# Altium schematic symbol library kmilo17pet-NSC_Amplifier.SchLib: 1665 symbols (part 12 of 44)
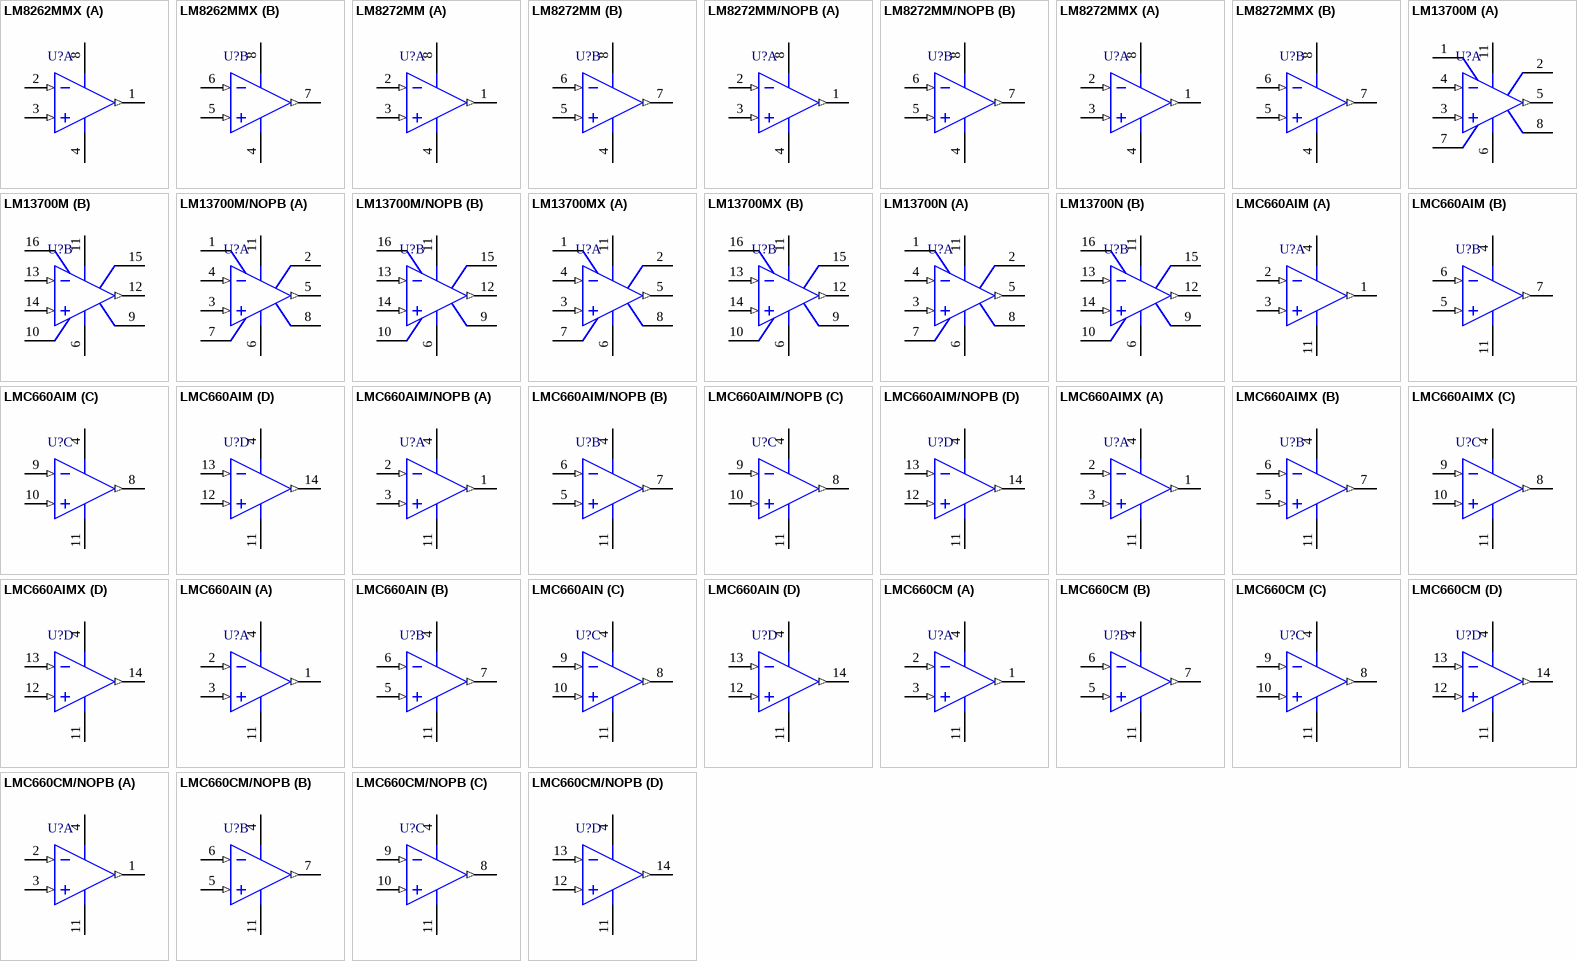
[diagram p95: symbols LM8262MMX to LMC660CM/NOPB]

## LMC660CM/NOPB
designator U?
CMOS Quad Operational Amplifier, 14-pin Narrow SOIC, Pb-Free; PartNumber: LMC660CM/NOPB; Manufacturer: National Semiconductor; PackageTopMarking: NSUZXYTTE#*LMC660CM; PowerWise: N; CompType: Amplifiers; High-Reliability: Y; DatasheetVersion: Jun-2006; PackageVersion: revJ, Jan-1996; PackageReference: M14A; PackageDescription: Molded Package S.O., .150in Wide, 14 Lead; RoHS: Y; PinCount: 14; Code_JEDEC: MS-012AB; Code_IPC: SOIC127P600-14; ComponentLink1Description: Manufacturer URL; ComponentLink1URL: http://www.national.com/; ComponentLink2Description: LMC660 Datasheet; ComponentLink2URL: http://www.national.com/ds/LM/LMC660.pdf; ComponentLink3Description: LMC660 Web Page; ComponentLink3URL: http://www.national.com/pf/LM/LMC660.html; ComponentLink4Description: M14A Package Page; ComponentLink4URL: http://www.national.com/packaging/folders/m14a.html
footprint M14A_N (SOIC, 14-Leads, Body 8.6x3.9mm, Pitch 1.27mm, IPC Medium Density)
footprint M14A_L (SOIC, 14-Leads, Body 8.6x3.9mm, Pitch 1.27mm, IPC High Density)
footprint M14A_M (SOIC, 14-Leads, Body 8.6x3.9mm, Pitch 1.27mm, IPC Low Density)
pins on every part: 4 V+ (power), 11 V- (power)
part A pins: 1 OUT1 (out), 2 IN1- (in), 3 IN1+ (in)
part B pins: 5 IN2+ (in), 6 IN2- (in), 7 OUT2 (out)
part C pins: 8 OUT3 (out), 9 IN3- (in), 10 IN3+ (in)
part D pins: 12 IN4+ (in), 13 IN4- (in), 14 OUT4 (out)

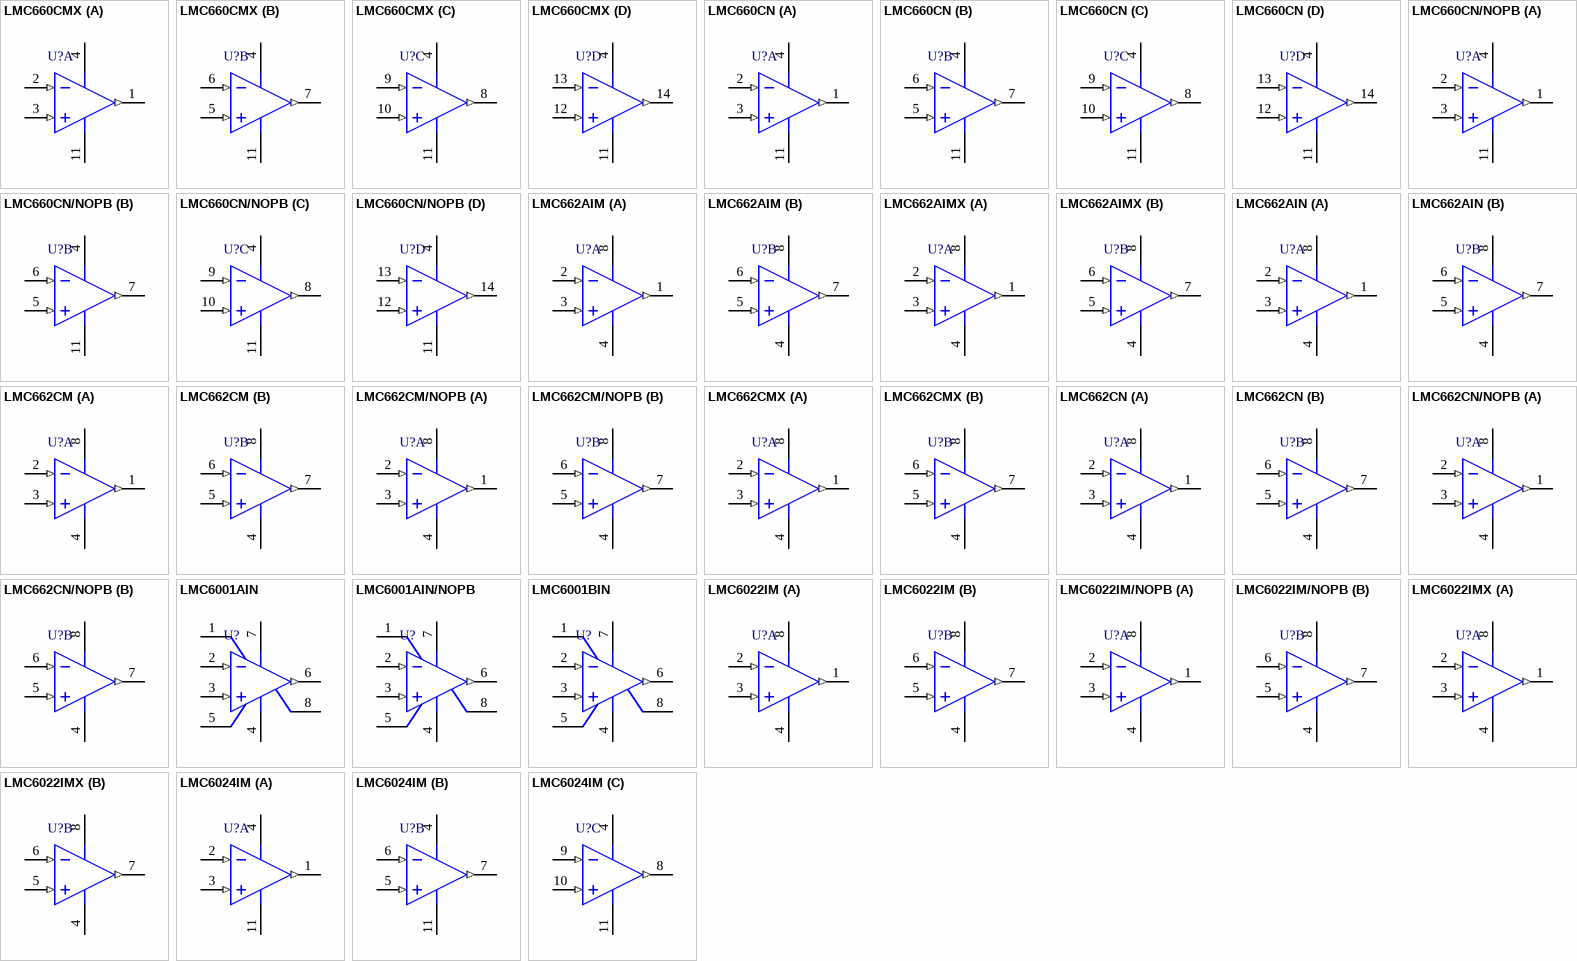
[diagram p26: symbols LMC660CMX to LMC6024IM]

## LMC660CMX
designator U?
CMOS Quad Operational Amplifier, 14-pin Narrow SOIC; PartNumber: LMC660CMX; Manufacturer: National Semiconductor; PackageTopMarking: NSUZXYTTE#*LMC660CM; PowerWise: N; CompType: Amplifiers; High-Reliability: Y; DatasheetVersion: Jun-2006; PackageVersion: revJ, Jan-1996; PackageReference: M14A; PackageDescription: Molded Package S.O., .150in Wide, 14 Lead; RoHS: N; PinCount: 14; Code_JEDEC: MS-012AB; Code_IPC: SOIC127P600-14; ComponentLink1Description: Manufacturer URL; ComponentLink1URL: http://www.national.com/; ComponentLink2Description: LMC660 Datasheet; ComponentLink2URL: http://www.national.com/ds/LM/LMC660.pdf; ComponentLink3Description: LMC660 Web Page; ComponentLink3URL: http://www.national.com/pf/LM/LMC660.html; ComponentLink4Description: M14A Package Page; ComponentLink4URL: http://www.national.com/packaging/folders/m14a.html
footprint M14A_N (SOIC, 14-Leads, Body 8.6x3.9mm, Pitch 1.27mm, IPC Medium Density)
footprint M14A_L (SOIC, 14-Leads, Body 8.6x3.9mm, Pitch 1.27mm, IPC High Density)
footprint M14A_M (SOIC, 14-Leads, Body 8.6x3.9mm, Pitch 1.27mm, IPC Low Density)
pins on every part: 4 V+ (power), 11 V- (power)
part A pins: 1 OUT1 (out), 2 IN1- (in), 3 IN1+ (in)
part B pins: 5 IN2+ (in), 6 IN2- (in), 7 OUT2 (out)
part C pins: 8 OUT3 (out), 9 IN3- (in), 10 IN3+ (in)
part D pins: 12 IN4+ (in), 13 IN4- (in), 14 OUT4 (out)

## LMC660CN
designator U?
CMOS Quad Operational Amplifier, 14-pin MDIP; PartNumber: LMC660CN; Manufacturer: National Semiconductor; PackageTopMarking: NSUZXYYTTE#*LMC660CN; PowerWise: N; CompType: Amplifiers; High-Reliability: Y; DatasheetVersion: Jun-2006; PackageVersion: revG, May-2006; PackageReference: N14A; PackageDescription: MDIP, .750 x .250 x.130in, 14 Lead, .100in Pitch; RoHS: N; PinCount: 14; Code_JEDEC: MS-001-AA; ComponentLink1Description: Manufacturer URL; ComponentLink1URL: http://www.national.com/; ComponentLink2Description: LMC660 Datasheet; ComponentLink2URL: http://www.national.com/ds/LM/LMC660.pdf; ComponentLink3Description: LMC660 Web Page; ComponentLink3URL: http://www.national.com/pf/LM/LMC660.html; ComponentLink4Description: N14A Package Page; ComponentLink4URL: http://www.national.com/packaging/folders/n14a.html
footprint N14A (DIP, 14-Leads, Row Spacing 7.62mm, Pitch 2.54mm, Body 19.56x6.35mm)
pins on every part: 4 V+ (power), 11 V- (power)
part A pins: 1 OUT1 (out), 2 IN1- (in), 3 IN1+ (in)
part B pins: 5 IN2+ (in), 6 IN2- (in), 7 OUT2 (out)
part C pins: 8 OUT3 (out), 9 IN3- (in), 10 IN3+ (in)
part D pins: 12 IN4+ (in), 13 IN4- (in), 14 OUT4 (out)

## LMC660CN/NOPB
designator U?
CMOS Quad Operational Amplifier, 14-pin MDIP, Pb-Free; PartNumber: LMC660CN/NOPB; Manufacturer: National Semiconductor; PackageTopMarking: NSUZXYYTTE#*LMC660CN; PowerWise: N; CompType: Amplifiers; High-Reliability: Y; DatasheetVersion: Jun-2006; PackageVersion: revG, May-2006; PackageReference: N14A; PackageDescription: MDIP, .750 x .250 x.130in, 14 Lead, .100in Pitch; RoHS: Y; PinCount: 14; Code_JEDEC: MS-001-AA; ComponentLink1Description: Manufacturer URL; ComponentLink1URL: http://www.national.com/; ComponentLink2Description: LMC660 Datasheet; ComponentLink2URL: http://www.national.com/ds/LM/LMC660.pdf; ComponentLink3Description: LMC660 Web Page; ComponentLink3URL: http://www.national.com/pf/LM/LMC660.html; ComponentLink4Description: N14A Package Page; ComponentLink4URL: http://www.national.com/packaging/folders/n14a.html
footprint N14A (DIP, 14-Leads, Row Spacing 7.62mm, Pitch 2.54mm, Body 19.56x6.35mm)
pins on every part: 4 V+ (power), 11 V- (power)
part A pins: 1 OUT1 (out), 2 IN1- (in), 3 IN1+ (in)
part B pins: 5 IN2+ (in), 6 IN2- (in), 7 OUT2 (out)
part C pins: 8 OUT3 (out), 9 IN3- (in), 10 IN3+ (in)
part D pins: 12 IN4+ (in), 13 IN4- (in), 14 OUT4 (out)

## LMC662AIM
designator U?
CMOS Dual Operational Amplifier, 8-pin Narrow SOIC; PartNumber: LMC662AIM; Manufacturer: National Semiconductor; PackageTopMarking: NSZXTT*LMC66*2AIM; PowerWise: N; CompType: Amplifiers; High-Reliability: Y; DatasheetVersion: Apr-2003; PackageVersion: revM, May-2009; PackageReference: M08A; PackageDescription: SOIC Narrow, 4.9 x 3.9 x 1.45mm, 8 Lead, 1.27mm Pitch; RoHS: N; PinCount: 8; Code_JEDEC: MS-012-AA; Code_IPC: SOIC127P600-8; ComponentLink1Description: Manufacturer URL; ComponentLink1URL: http://www.national.com/; ComponentLink2Description: LMC662 Datasheet; ComponentLink2URL: http://www.national.com/ds/LM/LMC662.pdf; ComponentLink3Description: LMC662 Web Page; ComponentLink3URL: http://www.national.com/pf/LM/LMC662.html; ComponentLink4Description: M08A Package Page; ComponentLink4URL: http://www.national.com/packaging/folders/m08a.html
footprint M08A_N (SOIC, 8-Leads, Body 4.9x3.9mm, Pitch 1.27mm, IPC Medium Density)
footprint M08A_L (SOIC, 8-Leads, Body 4.9x3.9mm, Pitch 1.27mm, IPC High Density)
footprint M08A_M (SOIC, 8-Leads, Body 4.9x3.9mm, Pitch 1.27mm, IPC Low Density)
pins on every part: 4 V- (power), 8 V+ (power)
part A pins: 1 OUTA (out), 2 INA- (in), 3 INA+ (in)
part B pins: 5 INB+ (in), 6 INB- (in), 7 OUTB (out)

## LMC662AIMX
designator U?
CMOS Dual Operational Amplifier, 8-pin Narrow SOIC; PartNumber: LMC662AIMX; Manufacturer: National Semiconductor; PackageTopMarking: NSZXTT*LMC66*2AIM; PowerWise: N; CompType: Amplifiers; High-Reliability: Y; DatasheetVersion: Apr-2003; PackageVersion: revM, May-2009; PackageReference: M08A; PackageDescription: SOIC Narrow, 4.9 x 3.9 x 1.45mm, 8 Lead, 1.27mm Pitch; RoHS: N; PinCount: 8; Code_JEDEC: MS-012-AA; Code_IPC: SOIC127P600-8; ComponentLink1Description: Manufacturer URL; ComponentLink1URL: http://www.national.com/; ComponentLink2Description: LMC662 Datasheet; ComponentLink2URL: http://www.national.com/ds/LM/LMC662.pdf; ComponentLink3Description: LMC662 Web Page; ComponentLink3URL: http://www.national.com/pf/LM/LMC662.html; ComponentLink4Description: M08A Package Page; ComponentLink4URL: http://www.national.com/packaging/folders/m08a.html
footprint M08A_N (SOIC, 8-Leads, Body 4.9x3.9mm, Pitch 1.27mm, IPC Medium Density)
footprint M08A_L (SOIC, 8-Leads, Body 4.9x3.9mm, Pitch 1.27mm, IPC High Density)
footprint M08A_M (SOIC, 8-Leads, Body 4.9x3.9mm, Pitch 1.27mm, IPC Low Density)
pins on every part: 4 V- (power), 8 V+ (power)
part A pins: 1 OUTA (out), 2 INA- (in), 3 INA+ (in)
part B pins: 5 INB+ (in), 6 INB- (in), 7 OUTB (out)

## LMC662AIN
designator U?
CMOS Dual Operational Amplifier, 8-pin MDIP; PartNumber: LMC662AIN; Manufacturer: National Semiconductor; PackageTopMarking: NSUZXYTTE#*LMC*662AIN; PowerWise: N; CompType: Amplifiers; High-Reliability: Y; DatasheetVersion: Apr-2003; PackageVersion: revG, May-2006; PackageReference: N08E; PackageDescription: MDIP, .365 x .250 x .130in, 8 Lead, .100in Pitch; RoHS: N; PinCount: 8; Code_JEDEC: MS-001-BA; ComponentLink1Description: Manufacturer URL; ComponentLink1URL: http://www.national.com/; ComponentLink2Description: LMC662 Datasheet; ComponentLink2URL: http://www.national.com/ds/LM/LMC662.pdf; ComponentLink3Description: LMC662 Web Page; ComponentLink3URL: http://www.national.com/pf/LM/LMC662.html; ComponentLink4Description: N08E Package Page; ComponentLink4URL: http://www.national.com/packaging/folders/n08e.html
footprint N08E (DIP, 8-Leads, Row Spacing 7.62mm, Pitch 2.54mm, Body 9.91x6.35mm)
pins on every part: 4 V- (power), 8 V+ (power)
part A pins: 1 OUTA (out), 2 INA- (in), 3 INA+ (in)
part B pins: 5 INB+ (in), 6 INB- (in), 7 OUTB (out)

## LMC662CM
designator U?
CMOS Dual Operational Amplifier, 8-pin Narrow SOIC; PartNumber: LMC662CM; Manufacturer: National Semiconductor; PackageTopMarking: NSZXTT*LMC66*2CM; PowerWise: N; CompType: Amplifiers; High-Reliability: Y; DatasheetVersion: Apr-2003; PackageVersion: revM, May-2009; PackageReference: M08A; PackageDescription: SOIC Narrow, 4.9 x 3.9 x 1.45mm, 8 Lead, 1.27mm Pitch; RoHS: N; PinCount: 8; Code_JEDEC: MS-012-AA; Code_IPC: SOIC127P600-8; ComponentLink1Description: Manufacturer URL; ComponentLink1URL: http://www.national.com/; ComponentLink2Description: LMC662 Datasheet; ComponentLink2URL: http://www.national.com/ds/LM/LMC662.pdf; ComponentLink3Description: LMC662 Web Page; ComponentLink3URL: http://www.national.com/pf/LM/LMC662.html; ComponentLink4Description: M08A Package Page; ComponentLink4URL: http://www.national.com/packaging/folders/m08a.html
footprint M08A_N (SOIC, 8-Leads, Body 4.9x3.9mm, Pitch 1.27mm, IPC Medium Density)
footprint M08A_L (SOIC, 8-Leads, Body 4.9x3.9mm, Pitch 1.27mm, IPC High Density)
footprint M08A_M (SOIC, 8-Leads, Body 4.9x3.9mm, Pitch 1.27mm, IPC Low Density)
pins on every part: 4 V- (power), 8 V+ (power)
part A pins: 1 OUTA (out), 2 INA- (in), 3 INA+ (in)
part B pins: 5 INB+ (in), 6 INB- (in), 7 OUTB (out)

## LMC662CM/NOPB
designator U?
CMOS Dual Operational Amplifier, 8-pin Narrow SOIC, Pb-Free; PartNumber: LMC662CM/NOPB; Manufacturer: National Semiconductor; PackageTopMarking: NSZXTT*LMC66*2CM; PowerWise: N; CompType: Amplifiers; High-Reliability: Y; DatasheetVersion: Apr-2003; PackageVersion: revM, May-2009; PackageReference: M08A; PackageDescription: SOIC Narrow, 4.9 x 3.9 x 1.45mm, 8 Lead, 1.27mm Pitch; RoHS: Y; PinCount: 8; Code_JEDEC: MS-012-AA; Code_IPC: SOIC127P600-8; ComponentLink1Description: Manufacturer URL; ComponentLink1URL: http://www.national.com/; ComponentLink2Description: LMC662 Datasheet; ComponentLink2URL: http://www.national.com/ds/LM/LMC662.pdf; ComponentLink3Description: LMC662 Web Page; ComponentLink3URL: http://www.national.com/pf/LM/LMC662.html; ComponentLink4Description: M08A Package Page; ComponentLink4URL: http://www.national.com/packaging/folders/m08a.html
footprint M08A_N (SOIC, 8-Leads, Body 4.9x3.9mm, Pitch 1.27mm, IPC Medium Density)
footprint M08A_L (SOIC, 8-Leads, Body 4.9x3.9mm, Pitch 1.27mm, IPC High Density)
footprint M08A_M (SOIC, 8-Leads, Body 4.9x3.9mm, Pitch 1.27mm, IPC Low Density)
pins on every part: 4 V- (power), 8 V+ (power)
part A pins: 1 OUTA (out), 2 INA- (in), 3 INA+ (in)
part B pins: 5 INB+ (in), 6 INB- (in), 7 OUTB (out)

## LMC662CMX
designator U?
CMOS Dual Operational Amplifier, 8-pin Narrow SOIC; PartNumber: LMC662CMX; Manufacturer: National Semiconductor; PackageTopMarking: NSZXTT*LMC66*2CM; PowerWise: N; CompType: Amplifiers; High-Reliability: Y; DatasheetVersion: Apr-2003; PackageVersion: revM, May-2009; PackageReference: M08A; PackageDescription: SOIC Narrow, 4.9 x 3.9 x 1.45mm, 8 Lead, 1.27mm Pitch; RoHS: N; PinCount: 8; Code_JEDEC: MS-012-AA; Code_IPC: SOIC127P600-8; ComponentLink1Description: Manufacturer URL; ComponentLink1URL: http://www.national.com/; ComponentLink2Description: LMC662 Datasheet; ComponentLink2URL: http://www.national.com/ds/LM/LMC662.pdf; ComponentLink3Description: LMC662 Web Page; ComponentLink3URL: http://www.national.com/pf/LM/LMC662.html; ComponentLink4Description: M08A Package Page; ComponentLink4URL: http://www.national.com/packaging/folders/m08a.html
footprint M08A_N (SOIC, 8-Leads, Body 4.9x3.9mm, Pitch 1.27mm, IPC Medium Density)
footprint M08A_L (SOIC, 8-Leads, Body 4.9x3.9mm, Pitch 1.27mm, IPC High Density)
footprint M08A_M (SOIC, 8-Leads, Body 4.9x3.9mm, Pitch 1.27mm, IPC Low Density)
pins on every part: 4 V- (power), 8 V+ (power)
part A pins: 1 OUTA (out), 2 INA- (in), 3 INA+ (in)
part B pins: 5 INB+ (in), 6 INB- (in), 7 OUTB (out)

## LMC662CN
designator U?
CMOS Dual Operational Amplifier, 8-pin MDIP; PartNumber: LMC662CN; Manufacturer: National Semiconductor; PackageTopMarking: NSUZXYTTE#*LMC*662CN; PowerWise: N; CompType: Amplifiers; High-Reliability: Y; DatasheetVersion: Apr-2003; PackageVersion: revG, May-2006; PackageReference: N08E; PackageDescription: MDIP, .365 x .250 x .130in, 8 Lead, .100in Pitch; RoHS: N; PinCount: 8; Code_JEDEC: MS-001-BA; ComponentLink1Description: Manufacturer URL; ComponentLink1URL: http://www.national.com/; ComponentLink2Description: LMC662 Datasheet; ComponentLink2URL: http://www.national.com/ds/LM/LMC662.pdf; ComponentLink3Description: LMC662 Web Page; ComponentLink3URL: http://www.national.com/pf/LM/LMC662.html; ComponentLink4Description: N08E Package Page; ComponentLink4URL: http://www.national.com/packaging/folders/n08e.html
footprint N08E (DIP, 8-Leads, Row Spacing 7.62mm, Pitch 2.54mm, Body 9.91x6.35mm)
pins on every part: 4 V- (power), 8 V+ (power)
part A pins: 1 OUTA (out), 2 INA- (in), 3 INA+ (in)
part B pins: 5 INB+ (in), 6 INB- (in), 7 OUTB (out)

## LMC662CN/NOPB
designator U?
CMOS Dual Operational Amplifier, 8-pin MDIP, Pb-Free; PartNumber: LMC662CN/NOPB; Manufacturer: National Semiconductor; PackageTopMarking: NSUZXYTTE#*LMC*662CN; PowerWise: N; CompType: Amplifiers; High-Reliability: Y; DatasheetVersion: Apr-2003; PackageVersion: revG, May-2006; PackageReference: N08E; PackageDescription: MDIP, .365 x .250 x .130in, 8 Lead, .100in Pitch; RoHS: Y; PinCount: 8; Code_JEDEC: MS-001-BA; ComponentLink1Description: Manufacturer URL; ComponentLink1URL: http://www.national.com/; ComponentLink2Description: LMC662 Datasheet; ComponentLink2URL: http://www.national.com/ds/LM/LMC662.pdf; ComponentLink3Description: LMC662 Web Page; ComponentLink3URL: http://www.national.com/pf/LM/LMC662.html; ComponentLink4Description: N08E Package Page; ComponentLink4URL: http://www.national.com/packaging/folders/n08e.html
footprint N08E (DIP, 8-Leads, Row Spacing 7.62mm, Pitch 2.54mm, Body 9.91x6.35mm)
pins on every part: 4 V- (power), 8 V+ (power)
part A pins: 1 OUTA (out), 2 INA- (in), 3 INA+ (in)
part B pins: 5 INB+ (in), 6 INB- (in), 7 OUTB (out)

## LMC6001AIN
designator U?
Ultra Ultra-Low Input Current Amplifier, 8-pin MDIP; PartNumber: LMC6001AIN; Manufacturer: National Semiconductor; PackageTopMarking: NSUZXYTTE#*LMC6001*AIN; PowerWise: N; CompType: Amplifiers; High-Reliability: Y; DatasheetVersion: Nov-2009; PackageVersion: revG, May-2006; PackageReference: N08E; PackageDescription: MDIP, .365 x .250 x .130in, 8 Lead, .100in Pitch; RoHS: N; PinCount: 8; Code_JEDEC: MS-001-BA; ComponentLink1Description: Manufacturer URL; ComponentLink1URL: http://www.national.com/; ComponentLink2Description: LMC6001 Datasheet; ComponentLink2URL: http://www.national.com/ds/LM/LMC6001.pdf; ComponentLink3Description: LMC6001 Web Page; ComponentLink3URL: http://www.national.com/pf/LM/LMC6001.html; ComponentLink4Description: N08E Package Page; ComponentLink4URL: http://www.national.com/packaging/folders/n08e.html
footprint N08E (DIP, 8-Leads, Row Spacing 7.62mm, Pitch 2.54mm, Body 9.91x6.35mm)
pins: 1 NC, 2 IN- (in), 3 IN+ (in), 4 V- (power), 5 NC, 6 OUT (out), 7 V+ (power), 8 NC

## LMC6001AIN/NOPB
designator U?
Ultra Ultra-Low Input Current Amplifier, 8-pin MDIP, Pb-Free; PartNumber: LMC6001AIN/NOPB; Manufacturer: National Semiconductor; PackageTopMarking: NSUZXYTTE#*LMC6001*AIN; PowerWise: N; CompType: Amplifiers; High-Reliability: Y; DatasheetVersion: Nov-2009; PackageVersion: revG, May-2006; PackageReference: N08E; PackageDescription: MDIP, .365 x .250 x .130in, 8 Lead, .100in Pitch; RoHS: Y; PinCount: 8; Code_JEDEC: MS-001-BA; ComponentLink1Description: Manufacturer URL; ComponentLink1URL: http://www.national.com/; ComponentLink2Description: LMC6001 Datasheet; ComponentLink2URL: http://www.national.com/ds/LM/LMC6001.pdf; ComponentLink3Description: LMC6001 Web Page; ComponentLink3URL: http://www.national.com/pf/LM/LMC6001.html; ComponentLink4Description: N08E Package Page; ComponentLink4URL: http://www.national.com/packaging/folders/n08e.html
footprint N08E (DIP, 8-Leads, Row Spacing 7.62mm, Pitch 2.54mm, Body 9.91x6.35mm)
pins: 1 NC, 2 IN- (in), 3 IN+ (in), 4 V- (power), 5 NC, 6 OUT (out), 7 V+ (power), 8 NC

## LMC6001BIN
designator U?
Ultra Ultra-Low Input Current Amplifier, 8-pin MDIP; PartNumber: LMC6001BIN; Manufacturer: National Semiconductor; PackageTopMarking: NSUZXYTTE#*LMC6001*BIN; PowerWise: N; CompType: Amplifiers; High-Reliability: Y; DatasheetVersion: Nov-2009; PackageVersion: revG, May-2006; PackageReference: N08E; PackageDescription: MDIP, .365 x .250 x .130in, 8 Lead, .100in Pitch; RoHS: N; PinCount: 8; Code_JEDEC: MS-001-BA; ComponentLink1Description: Manufacturer URL; ComponentLink1URL: http://www.national.com/; ComponentLink2Description: LMC6001 Datasheet; ComponentLink2URL: http://www.national.com/ds/LM/LMC6001.pdf; ComponentLink3Description: LMC6001 Web Page; ComponentLink3URL: http://www.national.com/pf/LM/LMC6001.html; ComponentLink4Description: N08E Package Page; ComponentLink4URL: http://www.national.com/packaging/folders/n08e.html
footprint N08E (DIP, 8-Leads, Row Spacing 7.62mm, Pitch 2.54mm, Body 9.91x6.35mm)
pins: 1 NC, 2 IN- (in), 3 IN+ (in), 4 V- (power), 5 NC, 6 OUT (out), 7 V+ (power), 8 NC

## LMC6022IM
designator U?
Low Power CMOS Dual Operational Amplifier, 8-pin Narrow SOIC; PartNumber: LMC6022IM; Manufacturer: National Semiconductor; PackageTopMarking: NSZXTT*LMC60*22IM; PowerWise: N; CompType: Amplifiers; High-Reliability: Y; DatasheetVersion: Oct-2004; PackageVersion: revM, May-2009; PackageReference: M08A; PackageDescription: SOIC Narrow, 4.9 x 3.9 x 1.45mm, 8 Lead, 1.27mm Pitch; RoHS: N; PinCount: 8; Code_JEDEC: MS-012-AA; Code_IPC: SOIC127P600-8; ComponentLink1Description: Manufacturer URL; ComponentLink1URL: http://www.national.com/; ComponentLink2Description: LMC6022 Datasheet; ComponentLink2URL: http://www.national.com/ds/LM/LMC6022.pdf; ComponentLink3Description: LMC6022 Web Page; ComponentLink3URL: http://www.national.com/pf/LM/LMC6022.html; ComponentLink4Description: M08A Package Page; ComponentLink4URL: http://www.national.com/packaging/folders/m08a.html
footprint M08A_N (SOIC, 8-Leads, Body 4.9x3.9mm, Pitch 1.27mm, IPC Medium Density)
footprint M08A_L (SOIC, 8-Leads, Body 4.9x3.9mm, Pitch 1.27mm, IPC High Density)
footprint M08A_M (SOIC, 8-Leads, Body 4.9x3.9mm, Pitch 1.27mm, IPC Low Density)
pins on every part: 4 V- (power), 8 V+ (power)
part A pins: 1 OUTA (out), 2 INA- (in), 3 INA+ (in)
part B pins: 5 INB+ (in), 6 INB- (in), 7 OUTB (out)

## LMC6022IM/NOPB
designator U?
Low Power CMOS Dual Operational Amplifier, 8-pin Narrow SOIC, Pb-Free; PartNumber: LMC6022IM/NOPB; Manufacturer: National Semiconductor; PackageTopMarking: NSZXTT*LMC60*22IM; PowerWise: N; CompType: Amplifiers; High-Reliability: Y; DatasheetVersion: Oct-2004; PackageVersion: revM, May-2009; PackageReference: M08A; PackageDescription: SOIC Narrow, 4.9 x 3.9 x 1.45mm, 8 Lead, 1.27mm Pitch; RoHS: Y; PinCount: 8; Code_JEDEC: MS-012-AA; Code_IPC: SOIC127P600-8; ComponentLink1Description: Manufacturer URL; ComponentLink1URL: http://www.national.com/; ComponentLink2Description: LMC6022 Datasheet; ComponentLink2URL: http://www.national.com/ds/LM/LMC6022.pdf; ComponentLink3Description: LMC6022 Web Page; ComponentLink3URL: http://www.national.com/pf/LM/LMC6022.html; ComponentLink4Description: M08A Package Page; ComponentLink4URL: http://www.national.com/packaging/folders/m08a.html
footprint M08A_N (SOIC, 8-Leads, Body 4.9x3.9mm, Pitch 1.27mm, IPC Medium Density)
footprint M08A_L (SOIC, 8-Leads, Body 4.9x3.9mm, Pitch 1.27mm, IPC High Density)
footprint M08A_M (SOIC, 8-Leads, Body 4.9x3.9mm, Pitch 1.27mm, IPC Low Density)
pins on every part: 4 V- (power), 8 V+ (power)
part A pins: 1 OUTA (out), 2 INA- (in), 3 INA+ (in)
part B pins: 5 INB+ (in), 6 INB- (in), 7 OUTB (out)

## LMC6022IMX
designator U?
Low Power CMOS Dual Operational Amplifier, 8-pin Narrow SOIC; PartNumber: LMC6022IMX; Manufacturer: National Semiconductor; PackageTopMarking: NSZXTT*LMC60*22IM; PowerWise: N; CompType: Amplifiers; High-Reliability: Y; DatasheetVersion: Oct-2004; PackageVersion: revM, May-2009; PackageReference: M08A; PackageDescription: SOIC Narrow, 4.9 x 3.9 x 1.45mm, 8 Lead, 1.27mm Pitch; RoHS: N; PinCount: 8; Code_JEDEC: MS-012-AA; Code_IPC: SOIC127P600-8; ComponentLink1Description: Manufacturer URL; ComponentLink1URL: http://www.national.com/; ComponentLink2Description: LMC6022 Datasheet; ComponentLink2URL: http://www.national.com/ds/LM/LMC6022.pdf; ComponentLink3Description: LMC6022 Web Page; ComponentLink3URL: http://www.national.com/pf/LM/LMC6022.html; ComponentLink4Description: M08A Package Page; ComponentLink4URL: http://www.national.com/packaging/folders/m08a.html
footprint M08A_N (SOIC, 8-Leads, Body 4.9x3.9mm, Pitch 1.27mm, IPC Medium Density)
footprint M08A_L (SOIC, 8-Leads, Body 4.9x3.9mm, Pitch 1.27mm, IPC High Density)
footprint M08A_M (SOIC, 8-Leads, Body 4.9x3.9mm, Pitch 1.27mm, IPC Low Density)
pins on every part: 4 V- (power), 8 V+ (power)
part A pins: 1 OUTA (out), 2 INA- (in), 3 INA+ (in)
part B pins: 5 INB+ (in), 6 INB- (in), 7 OUTB (out)

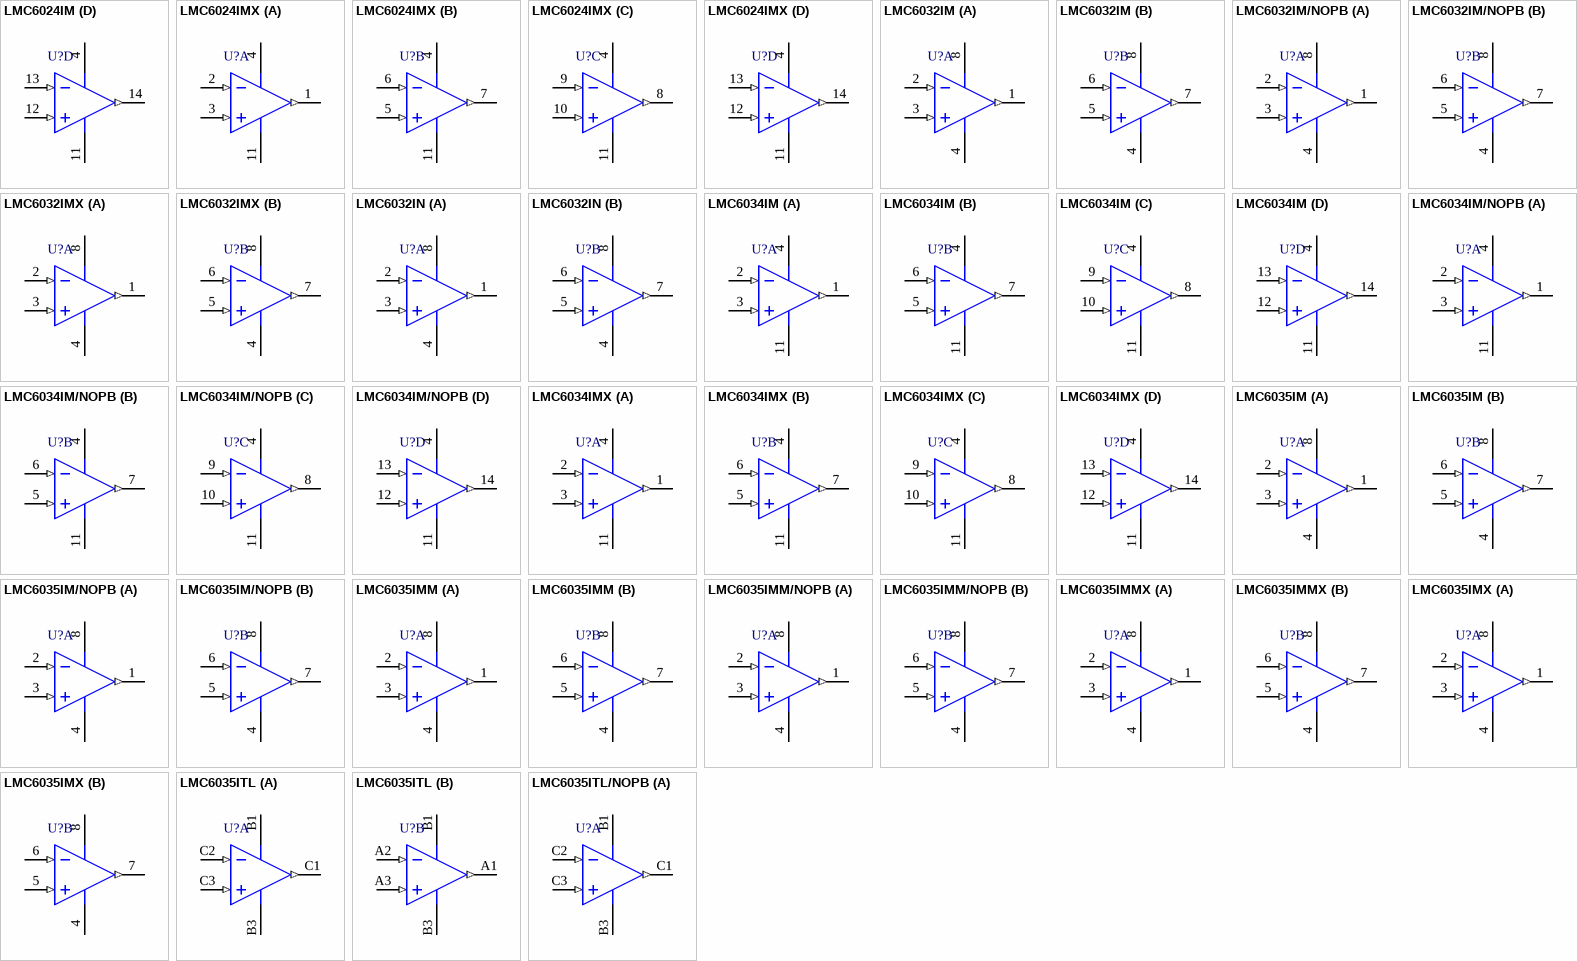
[diagram p27: symbols LMC6024IM to LMC6035ITL/NOPB]

## LMC6024IM
designator U?
Low Power CMOS Quad Operational Amplifier, 14-pin Narrow SOIC; PartNumber: LMC6024IM; Manufacturer: National Semiconductor; PackageTopMarking: NSUZXYTTE#*LMC6024IM; PowerWise: N; CompType: Amplifiers; High-Reliability: Y; DatasheetVersion: Aug-2000; PackageVersion: revJ, Jan-1996; PackageReference: M14A; PackageDescription: Molded Package S.O., .150in Wide, 14 Lead; RoHS: N; PinCount: 14; Code_JEDEC: MS-012AB; Code_IPC: SOIC127P600-14; ComponentLink1Description: Manufacturer URL; ComponentLink1URL: http://www.national.com/; ComponentLink2Description: LMC6024 Datasheet; ComponentLink2URL: http://www.national.com/ds/LM/LMC6024.pdf; ComponentLink3Description: LMC6024 Web Page; ComponentLink3URL: http://www.national.com/pf/LM/LMC6024.html; ComponentLink4Description: M14A Package Page; ComponentLink4URL: http://www.national.com/packaging/folders/m14a.html
footprint M14A_N (SOIC, 14-Leads, Body 8.6x3.9mm, Pitch 1.27mm, IPC Medium Density)
footprint M14A_L (SOIC, 14-Leads, Body 8.6x3.9mm, Pitch 1.27mm, IPC High Density)
footprint M14A_M (SOIC, 14-Leads, Body 8.6x3.9mm, Pitch 1.27mm, IPC Low Density)
pins on every part: 4 V+ (power), 11 V- (power)
part A pins: 1 OUT1 (out), 2 IN1- (in), 3 IN1+ (in)
part B pins: 5 IN2+ (in), 6 IN2- (in), 7 OUT2 (out)
part C pins: 8 OUT3 (out), 9 IN3- (in), 10 IN3+ (in)
part D pins: 12 IN4+ (in), 13 IN4- (in), 14 OUT4 (out)

## LMC6024IMX
designator U?
Low Power CMOS Quad Operational Amplifier, 14-pin Narrow SOIC; PartNumber: LMC6024IMX; Manufacturer: National Semiconductor; PackageTopMarking: NSUZXYTTE#*LMC6024IM; PowerWise: N; CompType: Amplifiers; High-Reliability: Y; DatasheetVersion: Aug-2000; PackageVersion: revJ, Jan-1996; PackageReference: M14A; PackageDescription: Molded Package S.O., .150in Wide, 14 Lead; RoHS: N; PinCount: 14; Code_JEDEC: MS-012AB; Code_IPC: SOIC127P600-14; ComponentLink1Description: Manufacturer URL; ComponentLink1URL: http://www.national.com/; ComponentLink2Description: LMC6024 Datasheet; ComponentLink2URL: http://www.national.com/ds/LM/LMC6024.pdf; ComponentLink3Description: LMC6024 Web Page; ComponentLink3URL: http://www.national.com/pf/LM/LMC6024.html; ComponentLink4Description: M14A Package Page; ComponentLink4URL: http://www.national.com/packaging/folders/m14a.html
footprint M14A_N (SOIC, 14-Leads, Body 8.6x3.9mm, Pitch 1.27mm, IPC Medium Density)
footprint M14A_L (SOIC, 14-Leads, Body 8.6x3.9mm, Pitch 1.27mm, IPC High Density)
footprint M14A_M (SOIC, 14-Leads, Body 8.6x3.9mm, Pitch 1.27mm, IPC Low Density)
pins on every part: 4 V+ (power), 11 V- (power)
part A pins: 1 OUT1 (out), 2 IN1- (in), 3 IN1+ (in)
part B pins: 5 IN2+ (in), 6 IN2- (in), 7 OUT2 (out)
part C pins: 8 OUT3 (out), 9 IN3- (in), 10 IN3+ (in)
part D pins: 12 IN4+ (in), 13 IN4- (in), 14 OUT4 (out)

## LMC6032IM
designator U?
CMOS Dual Operational Amplifier, 8-pin Narrow SOIC; PartNumber: LMC6032IM; Manufacturer: National Semiconductor; PackageTopMarking: NSZXTT*LMC60*32IM; PowerWise: N; CompType: Amplifiers; High-Reliability: Y; DatasheetVersion: Aug-2000; PackageVersion: revM, May-2009; PackageReference: M08A; PackageDescription: SOIC Narrow, 4.9 x 3.9 x 1.45mm, 8 Lead, 1.27mm Pitch; RoHS: N; PinCount: 8; Code_JEDEC: MS-012-AA; Code_IPC: SOIC127P600-8; ComponentLink1Description: Manufacturer URL; ComponentLink1URL: http://www.national.com/; ComponentLink2Description: LMC6032 Datasheet; ComponentLink2URL: http://www.national.com/ds/LM/LMC6032.pdf; ComponentLink3Description: LMC6032 Web Page; ComponentLink3URL: http://www.national.com/pf/LM/LMC6032.html; ComponentLink4Description: M08A Package Page; ComponentLink4URL: http://www.national.com/packaging/folders/m08a.html
footprint M08A_N (SOIC, 8-Leads, Body 4.9x3.9mm, Pitch 1.27mm, IPC Medium Density)
footprint M08A_L (SOIC, 8-Leads, Body 4.9x3.9mm, Pitch 1.27mm, IPC High Density)
footprint M08A_M (SOIC, 8-Leads, Body 4.9x3.9mm, Pitch 1.27mm, IPC Low Density)
pins on every part: 4 V- (power), 8 V+ (power)
part A pins: 1 OUTA (out), 2 INA- (in), 3 INA+ (in)
part B pins: 5 INB+ (in), 6 INB- (in), 7 OUTB (out)

## LMC6032IM/NOPB
designator U?
CMOS Dual Operational Amplifier, 8-pin Narrow SOIC, Pb-Free; PartNumber: LMC6032IM/NOPB; Manufacturer: National Semiconductor; PackageTopMarking: NSZXTT*LMC60*32IM; PowerWise: N; CompType: Amplifiers; High-Reliability: Y; DatasheetVersion: Aug-2000; PackageVersion: revM, May-2009; PackageReference: M08A; PackageDescription: SOIC Narrow, 4.9 x 3.9 x 1.45mm, 8 Lead, 1.27mm Pitch; RoHS: Y; PinCount: 8; Code_JEDEC: MS-012-AA; Code_IPC: SOIC127P600-8; ComponentLink1Description: Manufacturer URL; ComponentLink1URL: http://www.national.com/; ComponentLink2Description: LMC6032 Datasheet; ComponentLink2URL: http://www.national.com/ds/LM/LMC6032.pdf; ComponentLink3Description: LMC6032 Web Page; ComponentLink3URL: http://www.national.com/pf/LM/LMC6032.html; ComponentLink4Description: M08A Package Page; ComponentLink4URL: http://www.national.com/packaging/folders/m08a.html
footprint M08A_N (SOIC, 8-Leads, Body 4.9x3.9mm, Pitch 1.27mm, IPC Medium Density)
footprint M08A_L (SOIC, 8-Leads, Body 4.9x3.9mm, Pitch 1.27mm, IPC High Density)
footprint M08A_M (SOIC, 8-Leads, Body 4.9x3.9mm, Pitch 1.27mm, IPC Low Density)
pins on every part: 4 V- (power), 8 V+ (power)
part A pins: 1 OUTA (out), 2 INA- (in), 3 INA+ (in)
part B pins: 5 INB+ (in), 6 INB- (in), 7 OUTB (out)

## LMC6032IMX
designator U?
CMOS Dual Operational Amplifier, 8-pin Narrow SOIC; PartNumber: LMC6032IMX; Manufacturer: National Semiconductor; PackageTopMarking: NSZXTT*LMC60*32IM; PowerWise: N; CompType: Amplifiers; High-Reliability: Y; DatasheetVersion: Aug-2000; PackageVersion: revM, May-2009; PackageReference: M08A; PackageDescription: SOIC Narrow, 4.9 x 3.9 x 1.45mm, 8 Lead, 1.27mm Pitch; RoHS: N; PinCount: 8; Code_JEDEC: MS-012-AA; Code_IPC: SOIC127P600-8; ComponentLink1Description: Manufacturer URL; ComponentLink1URL: http://www.national.com/; ComponentLink2Description: LMC6032 Datasheet; ComponentLink2URL: http://www.national.com/ds/LM/LMC6032.pdf; ComponentLink3Description: LMC6032 Web Page; ComponentLink3URL: http://www.national.com/pf/LM/LMC6032.html; ComponentLink4Description: M08A Package Page; ComponentLink4URL: http://www.national.com/packaging/folders/m08a.html
footprint M08A_N (SOIC, 8-Leads, Body 4.9x3.9mm, Pitch 1.27mm, IPC Medium Density)
footprint M08A_L (SOIC, 8-Leads, Body 4.9x3.9mm, Pitch 1.27mm, IPC High Density)
footprint M08A_M (SOIC, 8-Leads, Body 4.9x3.9mm, Pitch 1.27mm, IPC Low Density)
pins on every part: 4 V- (power), 8 V+ (power)
part A pins: 1 OUTA (out), 2 INA- (in), 3 INA+ (in)
part B pins: 5 INB+ (in), 6 INB- (in), 7 OUTB (out)

## LMC6032IN
designator U?
CMOS Dual Operational Amplifier, 8-pin MDIP; PartNumber: LMC6032IN; Manufacturer: National Semiconductor; PackageTopMarking: NSUZXYTTE#*LMC*6032IN; PowerWise: N; CompType: Amplifiers; High-Reliability: Y; DatasheetVersion: Aug-2000; PackageVersion: revG, May-2006; PackageReference: N08E; PackageDescription: MDIP, .365 x .250 x .130in, 8 Lead, .100in Pitch; RoHS: N; PinCount: 8; Code_JEDEC: MS-001-BA; ComponentLink1Description: Manufacturer URL; ComponentLink1URL: http://www.national.com/; ComponentLink2Description: LMC6032 Datasheet; ComponentLink2URL: http://www.national.com/ds/LM/LMC6032.pdf; ComponentLink3Description: LMC6032 Web Page; ComponentLink3URL: http://www.national.com/pf/LM/LMC6032.html; ComponentLink4Description: N08E Package Page; ComponentLink4URL: http://www.national.com/packaging/folders/n08e.html
footprint N08E (DIP, 8-Leads, Row Spacing 7.62mm, Pitch 2.54mm, Body 9.91x6.35mm)
pins on every part: 4 V- (power), 8 V+ (power)
part A pins: 1 OUTA (out), 2 INA- (in), 3 INA+ (in)
part B pins: 5 INB+ (in), 6 INB- (in), 7 OUTB (out)

## LMC6034IM
designator U?
CMOS Quad Operational Amplifier, 14-pin Narrow SOIC; PartNumber: LMC6034IM; Manufacturer: National Semiconductor; PackageTopMarking: NSUZXYTTE#*LMC6034IM; PowerWise: N; CompType: Amplifiers; High-Reliability: Y; DatasheetVersion: Aug-2000; PackageVersion: revJ, Jan-1996; PackageReference: M14A; PackageDescription: Molded Package S.O., .150in Wide, 14 Lead; RoHS: N; PinCount: 14; Code_JEDEC: MS-012AB; Code_IPC: SOIC127P600-14; ComponentLink1Description: Manufacturer URL; ComponentLink1URL: http://www.national.com/; ComponentLink2Description: LMC6034 Datasheet; ComponentLink2URL: http://www.national.com/ds/LM/LMC6034.pdf; ComponentLink3Description: LMC6034 Web Page; ComponentLink3URL: http://www.national.com/pf/LM/LMC6034.html; ComponentLink4Description: M14A Package Page; ComponentLink4URL: http://www.national.com/packaging/folders/m14a.html
footprint M14A_N (SOIC, 14-Leads, Body 8.6x3.9mm, Pitch 1.27mm, IPC Medium Density)
footprint M14A_L (SOIC, 14-Leads, Body 8.6x3.9mm, Pitch 1.27mm, IPC High Density)
footprint M14A_M (SOIC, 14-Leads, Body 8.6x3.9mm, Pitch 1.27mm, IPC Low Density)
pins on every part: 4 V+ (power), 11 V- (power)
part A pins: 1 OUT1 (out), 2 IN1- (in), 3 IN1+ (in)
part B pins: 5 IN2+ (in), 6 IN2- (in), 7 OUT2 (out)
part C pins: 8 OUT3 (out), 9 IN3- (in), 10 IN3+ (in)
part D pins: 12 IN4+ (in), 13 IN4- (in), 14 OUT4 (out)

## LMC6034IM/NOPB
designator U?
CMOS Quad Operational Amplifier, 14-pin Narrow SOIC, Pb-Free; PartNumber: LMC6034IM/NOPB; Manufacturer: National Semiconductor; PackageTopMarking: NSUZXYTTE#*LMC6034IM; PowerWise: N; CompType: Amplifiers; High-Reliability: Y; DatasheetVersion: Aug-2000; PackageVersion: revJ, Jan-1996; PackageReference: M14A; PackageDescription: Molded Package S.O., .150in Wide, 14 Lead; RoHS: Y; PinCount: 14; Code_JEDEC: MS-012AB; Code_IPC: SOIC127P600-14; ComponentLink1Description: Manufacturer URL; ComponentLink1URL: http://www.national.com/; ComponentLink2Description: LMC6034 Datasheet; ComponentLink2URL: http://www.national.com/ds/LM/LMC6034.pdf; ComponentLink3Description: LMC6034 Web Page; ComponentLink3URL: http://www.national.com/pf/LM/LMC6034.html; ComponentLink4Description: M14A Package Page; ComponentLink4URL: http://www.national.com/packaging/folders/m14a.html
footprint M14A_N (SOIC, 14-Leads, Body 8.6x3.9mm, Pitch 1.27mm, IPC Medium Density)
footprint M14A_L (SOIC, 14-Leads, Body 8.6x3.9mm, Pitch 1.27mm, IPC High Density)
footprint M14A_M (SOIC, 14-Leads, Body 8.6x3.9mm, Pitch 1.27mm, IPC Low Density)
pins on every part: 4 V+ (power), 11 V- (power)
part A pins: 1 OUT1 (out), 2 IN1- (in), 3 IN1+ (in)
part B pins: 5 IN2+ (in), 6 IN2- (in), 7 OUT2 (out)
part C pins: 8 OUT3 (out), 9 IN3- (in), 10 IN3+ (in)
part D pins: 12 IN4+ (in), 13 IN4- (in), 14 OUT4 (out)

## LMC6034IMX
designator U?
CMOS Quad Operational Amplifier, 14-pin Narrow SOIC; PartNumber: LMC6034IMX; Manufacturer: National Semiconductor; PackageTopMarking: NSUZXYTTE#*LMC6034IM; PowerWise: N; CompType: Amplifiers; High-Reliability: Y; DatasheetVersion: Aug-2000; PackageVersion: revJ, Jan-1996; PackageReference: M14A; PackageDescription: Molded Package S.O., .150in Wide, 14 Lead; RoHS: N; PinCount: 14; Code_JEDEC: MS-012AB; Code_IPC: SOIC127P600-14; ComponentLink1Description: Manufacturer URL; ComponentLink1URL: http://www.national.com/; ComponentLink2Description: LMC6034 Datasheet; ComponentLink2URL: http://www.national.com/ds/LM/LMC6034.pdf; ComponentLink3Description: LMC6034 Web Page; ComponentLink3URL: http://www.national.com/pf/LM/LMC6034.html; ComponentLink4Description: M14A Package Page; ComponentLink4URL: http://www.national.com/packaging/folders/m14a.html
footprint M14A_N (SOIC, 14-Leads, Body 8.6x3.9mm, Pitch 1.27mm, IPC Medium Density)
footprint M14A_L (SOIC, 14-Leads, Body 8.6x3.9mm, Pitch 1.27mm, IPC High Density)
footprint M14A_M (SOIC, 14-Leads, Body 8.6x3.9mm, Pitch 1.27mm, IPC Low Density)
pins on every part: 4 V+ (power), 11 V- (power)
part A pins: 1 OUT1 (out), 2 IN1- (in), 3 IN1+ (in)
part B pins: 5 IN2+ (in), 6 IN2- (in), 7 OUT2 (out)
part C pins: 8 OUT3 (out), 9 IN3- (in), 10 IN3+ (in)
part D pins: 12 IN4+ (in), 13 IN4- (in), 14 OUT4 (out)

## LMC6035IM
designator U?
Low Power 2.7V Single Supply CMOS Operational Amplifiers, 8-pin Narrow SOIC; PartNumber: LMC6035IM; Manufacturer: National Semiconductor; PackageTopMarking: NSZXTT*LMC60*35IM; PowerWise: N; High-Reliability: Y; DatasheetVersion: Oct-2002; PackageVersion: revM, May-2009; PackageReference: M08A; PackageDescription: SOIC Narrow, 4.9 x 3.9 x 1.45mm, 8 Lead, 1.27mm Pitch; RoHS: N; PinCount: 8; CompType: Amplifiers; Code_JEDEC: MS-012-AA; Code_IPC: SOIC127P600-8; ComponentLink1Description: Manufacturer URL; ComponentLink1URL: http://www.national.com/; ComponentLink2Description: LMC6035 Datasheet; ComponentLink2URL: http://www.national.com/ds/LM/LMC6035.pdf; ComponentLink3Description: LMC6035 Web Page; ComponentLink3URL: http://www.national.com/pf/LM/LMC6035.html; ComponentLink4Description: M08A Package Page; ComponentLink4URL: http://www.national.com/packaging/folders/m08a.html
footprint M08A_N (SOIC, 8-Leads, Body 4.9x3.9mm, Pitch 1.27mm, IPC Medium Density)
footprint M08A_L (SOIC, 8-Leads, Body 4.9x3.9mm, Pitch 1.27mm, IPC High Density)
footprint M08A_M (SOIC, 8-Leads, Body 4.9x3.9mm, Pitch 1.27mm, IPC Low Density)
pins on every part: 4 V- (power), 8 V+ (power)
part A pins: 1 OUTA (out), 2 INA- (in), 3 INA+ (in)
part B pins: 5 INB+ (in), 6 INB- (in), 7 OUTB (out)

## LMC6035IM/NOPB
designator U?
Low Power 2.7V Single Supply CMOS Operational Amplifiers, 8-pin Narrow SOIC, Pb-Free; PartNumber: LMC6035IM/NOPB; Manufacturer: National Semiconductor; PackageTopMarking: NSZXTT*LMC60*35IM; PowerWise: N; High-Reliability: Y; DatasheetVersion: Oct-2002; PackageVersion: revM, May-2009; PackageReference: M08A; PackageDescription: SOIC Narrow, 4.9 x 3.9 x 1.45mm, 8 Lead, 1.27mm Pitch; RoHS: Y; PinCount: 8; CompType: Amplifiers; Code_JEDEC: MS-012-AA; Code_IPC: SOIC127P600-8; ComponentLink1Description: Manufacturer URL; ComponentLink1URL: http://www.national.com/; ComponentLink2Description: LMC6035 Datasheet; ComponentLink2URL: http://www.national.com/ds/LM/LMC6035.pdf; ComponentLink3Description: LMC6035 Web Page; ComponentLink3URL: http://www.national.com/pf/LM/LMC6035.html; ComponentLink4Description: M08A Package Page; ComponentLink4URL: http://www.national.com/packaging/folders/m08a.html
footprint M08A_N (SOIC, 8-Leads, Body 4.9x3.9mm, Pitch 1.27mm, IPC Medium Density)
footprint M08A_L (SOIC, 8-Leads, Body 4.9x3.9mm, Pitch 1.27mm, IPC High Density)
footprint M08A_M (SOIC, 8-Leads, Body 4.9x3.9mm, Pitch 1.27mm, IPC Low Density)
pins on every part: 4 V- (power), 8 V+ (power)
part A pins: 1 OUTA (out), 2 INA- (in), 3 INA+ (in)
part B pins: 5 INB+ (in), 6 INB- (in), 7 OUTB (out)

## LMC6035IMM
designator U?
Low Power 2.7V Single Supply CMOS Operational Amplifiers, 8-pin Mini SOIC; PartNumber: LMC6035IMM; Manufacturer: National Semiconductor; PackageTopMarking: ZXTT*A06B; PowerWise: N; High-Reliability: Y; DatasheetVersion: Oct-2002; PackageVersion: revF, Apr-2008; PackageReference: MUA08A; PackageDescription: MINI SOIC, .118 x .118 x .034in, 8 Lead, .0256in Pitch; RoHS: N; PinCount: 8; CompType: Amplifiers; Code_JEDEC: MO-187-AA; ComponentLink1Description: Manufacturer URL; ComponentLink1URL: http://www.national.com/; ComponentLink2Description: LMC6035 Datasheet; ComponentLink2URL: http://www.national.com/ds/LM/LMC6035.pdf; ComponentLink3Description: LMC6035 Web Page; ComponentLink3URL: http://www.national.com/pf/LM/LMC6035.html; ComponentLink4Description: MUA08A Package Page; ComponentLink4URL: http://www.national.com/packaging/folders/mua08a.html
footprint MUA08A_N (TSOP, 8-Leads, Body 3x3mm, Pitch 0.65mm, IPC Medium Density)
footprint MUA08A_L (TSOP, 8-Leads, Body 3x3mm, Pitch 0.65mm, IPC High Density)
footprint MUA08A_M (TSOP, 8-Leads, Body 3x3mm, Pitch 0.65mm, IPC Low Density)
pins on every part: 4 V- (power), 8 V+ (power)
part A pins: 1 OUTA (out), 2 INA- (in), 3 INA+ (in)
part B pins: 5 INB+ (in), 6 INB- (in), 7 OUTB (out)

## LMC6035IMM/NOPB
designator U?
Low Power 2.7V Single Supply CMOS Operational Amplifiers, 8-pin Mini SOIC, Pb-Free; PartNumber: LMC6035IMM/NOPB; Manufacturer: National Semiconductor; PackageTopMarking: ZXTT*A06B; PowerWise: N; High-Reliability: Y; DatasheetVersion: Oct-2002; PackageVersion: revF, Apr-2008; PackageReference: MUA08A; PackageDescription: MINI SOIC, .118 x .118 x .034in, 8 Lead, .0256in Pitch; RoHS: Y; PinCount: 8; CompType: Amplifiers; Code_JEDEC: MO-187-AA; ComponentLink1Description: Manufacturer URL; ComponentLink1URL: http://www.national.com/; ComponentLink2Description: LMC6035 Datasheet; ComponentLink2URL: http://www.national.com/ds/LM/LMC6035.pdf; ComponentLink3Description: LMC6035 Web Page; ComponentLink3URL: http://www.national.com/pf/LM/LMC6035.html; ComponentLink4Description: MUA08A Package Page; ComponentLink4URL: http://www.national.com/packaging/folders/mua08a.html
footprint MUA08A_N (TSOP, 8-Leads, Body 3x3mm, Pitch 0.65mm, IPC Medium Density)
footprint MUA08A_L (TSOP, 8-Leads, Body 3x3mm, Pitch 0.65mm, IPC High Density)
footprint MUA08A_M (TSOP, 8-Leads, Body 3x3mm, Pitch 0.65mm, IPC Low Density)
pins on every part: 4 V- (power), 8 V+ (power)
part A pins: 1 OUTA (out), 2 INA- (in), 3 INA+ (in)
part B pins: 5 INB+ (in), 6 INB- (in), 7 OUTB (out)

## LMC6035IMMX
designator U?
Low Power 2.7V Single Supply CMOS Operational Amplifiers, 8-pin Mini SOIC; PartNumber: LMC6035IMMX; Manufacturer: National Semiconductor; PackageTopMarking: ZXTT*A06B; PowerWise: N; High-Reliability: Y; DatasheetVersion: Oct-2002; PackageVersion: revF, Apr-2008; PackageReference: MUA08A; PackageDescription: MINI SOIC, .118 x .118 x .034in, 8 Lead, .0256in Pitch; RoHS: N; PinCount: 8; CompType: Amplifiers; Code_JEDEC: MO-187-AA; ComponentLink1Description: Manufacturer URL; ComponentLink1URL: http://www.national.com/; ComponentLink2Description: LMC6035 Datasheet; ComponentLink2URL: http://www.national.com/ds/LM/LMC6035.pdf; ComponentLink3Description: LMC6035 Web Page; ComponentLink3URL: http://www.national.com/pf/LM/LMC6035.html; ComponentLink4Description: MUA08A Package Page; ComponentLink4URL: http://www.national.com/packaging/folders/mua08a.html
footprint MUA08A_N (TSOP, 8-Leads, Body 3x3mm, Pitch 0.65mm, IPC Medium Density)
footprint MUA08A_L (TSOP, 8-Leads, Body 3x3mm, Pitch 0.65mm, IPC High Density)
footprint MUA08A_M (TSOP, 8-Leads, Body 3x3mm, Pitch 0.65mm, IPC Low Density)
pins on every part: 4 V- (power), 8 V+ (power)
part A pins: 1 OUTA (out), 2 INA- (in), 3 INA+ (in)
part B pins: 5 INB+ (in), 6 INB- (in), 7 OUTB (out)

## LMC6035IMX
designator U?
Low Power 2.7V Single Supply CMOS Operational Amplifiers, 8-pin Narrow SOIC; PartNumber: LMC6035IMX; Manufacturer: National Semiconductor; PackageTopMarking: NSZXTT*LMC60*35IM; PowerWise: N; High-Reliability: Y; DatasheetVersion: Oct-2002; PackageVersion: revM, May-2009; PackageReference: M08A; PackageDescription: SOIC Narrow, 4.9 x 3.9 x 1.45mm, 8 Lead, 1.27mm Pitch; RoHS: N; PinCount: 8; CompType: Amplifiers; Code_JEDEC: MS-012-AA; Code_IPC: SOIC127P600-8; ComponentLink1Description: Manufacturer URL; ComponentLink1URL: http://www.national.com/; ComponentLink2Description: LMC6035 Datasheet; ComponentLink2URL: http://www.national.com/ds/LM/LMC6035.pdf; ComponentLink3Description: LMC6035 Web Page; ComponentLink3URL: http://www.national.com/pf/LM/LMC6035.html; ComponentLink4Description: M08A Package Page; ComponentLink4URL: http://www.national.com/packaging/folders/m08a.html
footprint M08A_N (SOIC, 8-Leads, Body 4.9x3.9mm, Pitch 1.27mm, IPC Medium Density)
footprint M08A_L (SOIC, 8-Leads, Body 4.9x3.9mm, Pitch 1.27mm, IPC High Density)
footprint M08A_M (SOIC, 8-Leads, Body 4.9x3.9mm, Pitch 1.27mm, IPC Low Density)
pins on every part: 4 V- (power), 8 V+ (power)
part A pins: 1 OUTA (out), 2 INA- (in), 3 INA+ (in)
part B pins: 5 INB+ (in), 6 INB- (in), 7 OUTB (out)

## LMC6035ITL
designator U?
Low Power 2.7V Single Supply CMOS Operational Amplifiers, 8-pin Micro SMD; PartNumber: LMC6035ITL; Manufacturer: National Semiconductor; PackageTopMarking: XVA*I 80; PowerWise: N; High-Reliability: Y; DatasheetVersion: Oct-2002; PackageVersion: revC, Jan-2004; PackageReference: TLA08JQA; PackageDescription: Thin Micro SMD, 8 Bump (Large), 0.5mm Pitch; RoHS: Y; PinCount: 8; CompType: Amplifiers; Code_JEDEC: MO-211-DD; ComponentLink1Description: Manufacturer URL; ComponentLink1URL: http://www.national.com/; ComponentLink2Description: LMC6035 Datasheet; ComponentLink2URL: http://www.national.com/ds/LM/LMC6035.pdf; ComponentLink3Description: LMC6035 Web Page; ComponentLink3URL: http://www.national.com/pf/LM/LMC6035.html; ComponentLink4Description: TLA08JQA Package Page; ComponentLink4URL: http://www.national.com/packaging/folders/tla08jqa.html
footprint TLA08JQA (Micro SMD, 8-Leads, Body 1.87x1.72mm, Pitch 0.5mm, NSC Recommended)
pins on every part: B1 V+ (power), B3 V- (power)
part A pins: C1 OUTA (out), C2 INA- (in), C3 INA+ (in)
part B pins: A1 OUTB (out), A2 INB- (in), A3 INB+ (in)

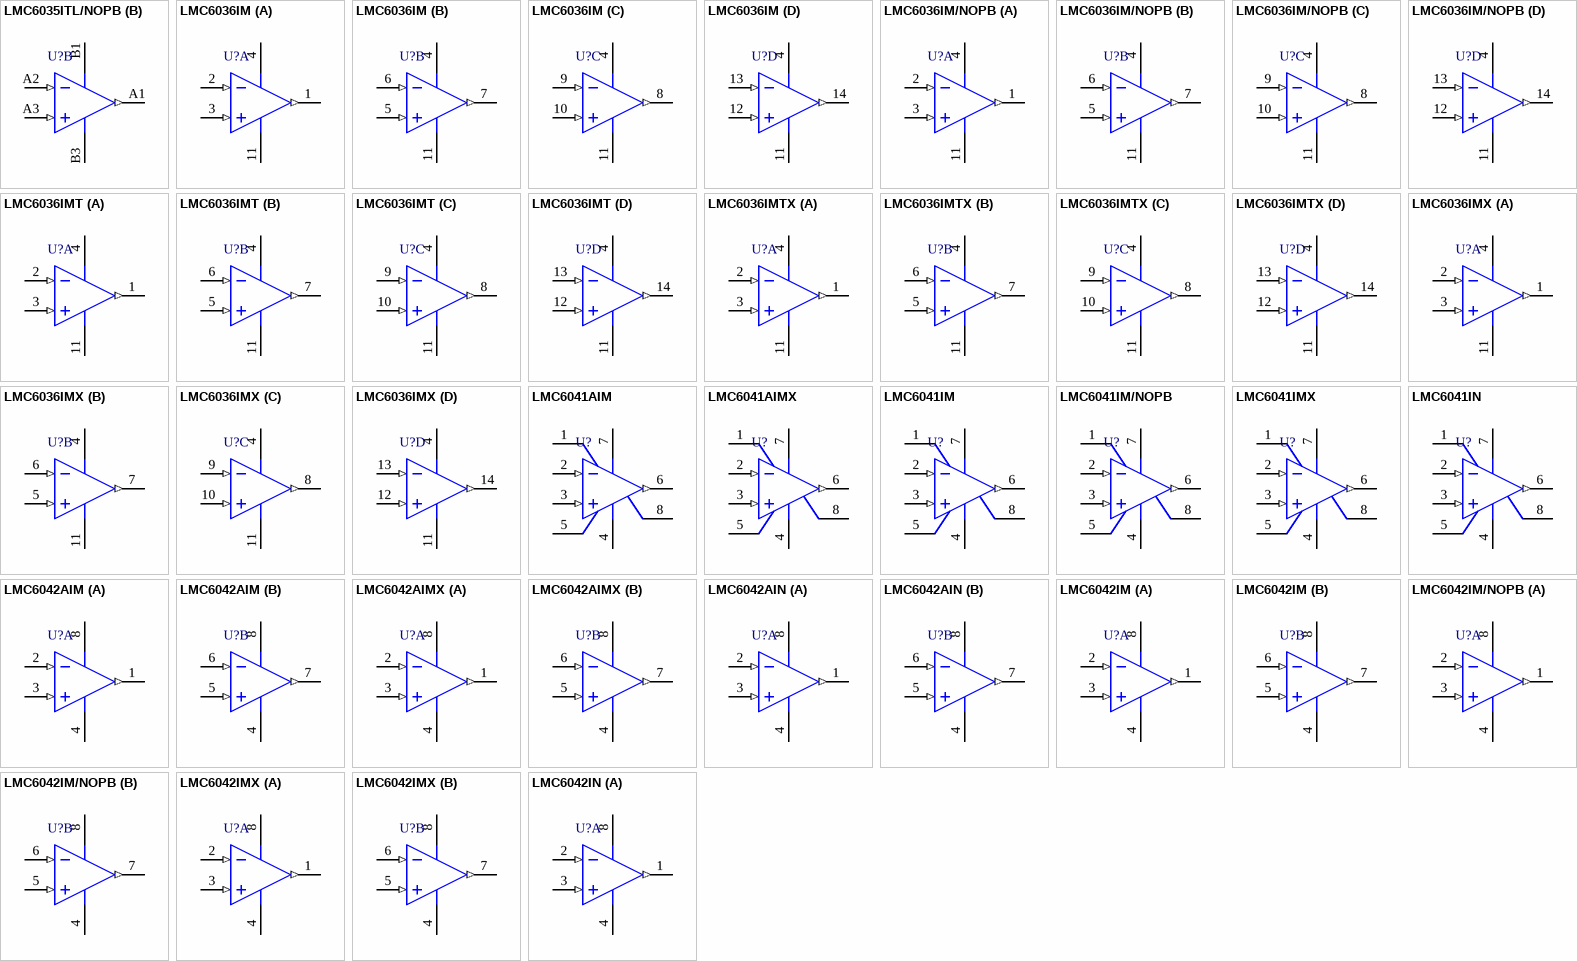
[diagram p28: symbols LMC6035ITL/NOPB to LMC6042IN]

## LMC6035ITL/NOPB
designator U?
Low Power 2.7V Single Supply CMOS Operational Amplifiers, 8-pin Micro SMD, Pb-Free; PartNumber: LMC6035ITL/NOPB; Manufacturer: National Semiconductor; PackageTopMarking: XVA*I 80; PowerWise: N; High-Reliability: Y; DatasheetVersion: Oct-2002; PackageVersion: revC, Jan-2004; PackageReference: TLA08JQA; PackageDescription: Thin Micro SMD, 8 Bump (Large), 0.5mm Pitch; RoHS: Y; PinCount: 8; CompType: Amplifiers; Code_JEDEC: MO-211-DD; ComponentLink1Description: Manufacturer URL; ComponentLink1URL: http://www.national.com/; ComponentLink2Description: LMC6035 Datasheet; ComponentLink2URL: http://www.national.com/ds/LM/LMC6035.pdf; ComponentLink3Description: LMC6035 Web Page; ComponentLink3URL: http://www.national.com/pf/LM/LMC6035.html; ComponentLink4Description: TLA08JQA Package Page; ComponentLink4URL: http://www.national.com/packaging/folders/tla08jqa.html
footprint TLA08JQA (Micro SMD, 8-Leads, Body 1.87x1.72mm, Pitch 0.5mm, NSC Recommended)
pins on every part: B1 V+ (power), B3 V- (power)
part A pins: C1 OUTA (out), C2 INA- (in), C3 INA+ (in)
part B pins: A1 OUTB (out), A2 INB- (in), A3 INB+ (in)

## LMC6036IM
designator U?
Low Power 2.7V Single Supply CMOS Operational Amplifier, 14-pin Narrow SOIC; PartNumber: LMC6036IM; Manufacturer: National Semiconductor; PackageTopMarking: NSUZXYTTE#*LMC6036IM; PowerWise: N; CompType: Amplifiers; High-Reliability: Y; DatasheetVersion: Oct-2002; PackageVersion: revJ, Jan-1996; PackageReference: M14A; PackageDescription: Molded Package S.O., .150in Wide, 14 Lead; RoHS: N; PinCount: 14; Code_JEDEC: MS-012AB; Code_IPC: SOIC127P600-14; ComponentLink1Description: Manufacturer URL; ComponentLink1URL: http://www.national.com/; ComponentLink2Description: LMC6036 Datasheet; ComponentLink2URL: http://www.national.com/ds/LM/LMC6036.pdf; ComponentLink3Description: LMC6036 Web Page; ComponentLink3URL: http://www.national.com/pf/LM/LMC6036.html; ComponentLink4Description: M14A Package Page; ComponentLink4URL: http://www.national.com/packaging/folders/m14a.html
footprint M14A_N (SOIC, 14-Leads, Body 8.6x3.9mm, Pitch 1.27mm, IPC Medium Density)
footprint M14A_L (SOIC, 14-Leads, Body 8.6x3.9mm, Pitch 1.27mm, IPC High Density)
footprint M14A_M (SOIC, 14-Leads, Body 8.6x3.9mm, Pitch 1.27mm, IPC Low Density)
pins on every part: 4 V+ (power), 11 V- (power)
part A pins: 1 OUTA (out), 2 INA- (in), 3 INA+ (in)
part B pins: 5 INB+ (in), 6 INB- (in), 7 OUTB (out)
part C pins: 8 OUTC (out), 9 INC- (in), 10 INC+ (in)
part D pins: 12 IND+ (in), 13 IND- (in), 14 OUTD (out)

## LMC6036IM/NOPB
designator U?
Low Power 2.7V Single Supply CMOS Operational Amplifier, 14-pin Narrow SOIC, Pb-Free; PartNumber: LMC6036IM/NOPB; Manufacturer: National Semiconductor; PackageTopMarking: NSUZXYTTE#*LMC6036IM; PowerWise: N; CompType: Amplifiers; High-Reliability: Y; DatasheetVersion: Oct-2002; PackageVersion: revJ, Jan-1996; PackageReference: M14A; PackageDescription: Molded Package S.O., .150in Wide, 14 Lead; RoHS: Y; PinCount: 14; Code_JEDEC: MS-012AB; Code_IPC: SOIC127P600-14; ComponentLink1Description: Manufacturer URL; ComponentLink1URL: http://www.national.com/; ComponentLink2Description: LMC6036 Datasheet; ComponentLink2URL: http://www.national.com/ds/LM/LMC6036.pdf; ComponentLink3Description: LMC6036 Web Page; ComponentLink3URL: http://www.national.com/pf/LM/LMC6036.html; ComponentLink4Description: M14A Package Page; ComponentLink4URL: http://www.national.com/packaging/folders/m14a.html
footprint M14A_N (SOIC, 14-Leads, Body 8.6x3.9mm, Pitch 1.27mm, IPC Medium Density)
footprint M14A_L (SOIC, 14-Leads, Body 8.6x3.9mm, Pitch 1.27mm, IPC High Density)
footprint M14A_M (SOIC, 14-Leads, Body 8.6x3.9mm, Pitch 1.27mm, IPC Low Density)
pins on every part: 4 V+ (power), 11 V- (power)
part A pins: 1 OUTA (out), 2 INA- (in), 3 INA+ (in)
part B pins: 5 INB+ (in), 6 INB- (in), 7 OUTB (out)
part C pins: 8 OUTC (out), 9 INC- (in), 10 INC+ (in)
part D pins: 12 IND+ (in), 13 IND- (in), 14 OUTD (out)

## LMC6036IMT
designator U?
Low Power 2.7V Single Supply CMOS Operational Amplifier, 14-pin TSSOP; PartNumber: LMC6036IMT; Manufacturer: National Semiconductor; PackageTopMarking: NSXYTT*LMC603*6IMT; PowerWise: N; CompType: Amplifiers; High-Reliability: Y; DatasheetVersion: Oct-2002; PackageVersion: revD, Jun-2003; PackageReference: MTC14; PackageDescription: Molded TSSOP, JEDEC, 5 x 4.4 x 0.9mm Body, 14 Lead, 0.65mm Pitch; RoHS: N; PinCount: 14; Code_JEDEC: MO-153-AB-1; ComponentLink1Description: Manufacturer URL; ComponentLink1URL: http://www.national.com/; ComponentLink2Description: LMC6036 Datasheet; ComponentLink2URL: http://www.national.com/ds/LM/LMC6036.pdf; ComponentLink3Description: LMC6036 Web Page; ComponentLink3URL: http://www.national.com/pf/LM/LMC6036.html; ComponentLink4Description: MTC14 Package Page; ComponentLink4URL: http://www.national.com/packaging/folders/mtc14.html
footprint MTC14_N (TSOP, 14-Leads, Body 5x4.4mm, Pitch 0.65mm, IPC Medium Density)
footprint MTC14_L (TSOP, 14-Leads, Body 5x4.4mm, Pitch 0.65mm, IPC High Density)
footprint MTC14_M (TSOP, 14-Leads, Body 5x4.4mm, Pitch 0.65mm, IPC Low Density)
pins on every part: 4 V+ (power), 11 V- (power)
part A pins: 1 OUTA (out), 2 INA- (in), 3 INA+ (in)
part B pins: 5 INB+ (in), 6 INB- (in), 7 OUTB (out)
part C pins: 8 OUTC (out), 9 INC- (in), 10 INC+ (in)
part D pins: 12 IND+ (in), 13 IND- (in), 14 OUTD (out)

## LMC6036IMTX
designator U?
Low Power 2.7V Single Supply CMOS Operational Amplifier, 14-pin TSSOP; PartNumber: LMC6036IMTX; Manufacturer: National Semiconductor; PackageTopMarking: NSZXYTT*LMC603*6IMT; PowerWise: N; CompType: Amplifiers; High-Reliability: Y; DatasheetVersion: Oct-2002; PackageVersion: revD, Jun-2003; PackageReference: MTC14; PackageDescription: Molded TSSOP, JEDEC, 5 x 4.4 x 0.9mm Body, 14 Lead, 0.65mm Pitch; RoHS: N; PinCount: 14; Code_JEDEC: MO-153-AB-1; ComponentLink1Description: Manufacturer URL; ComponentLink1URL: http://www.national.com/; ComponentLink2Description: LMC6036 Datasheet; ComponentLink2URL: http://www.national.com/ds/LM/LMC6036.pdf; ComponentLink3Description: LMC6036 Web Page; ComponentLink3URL: http://www.national.com/pf/LM/LMC6036.html; ComponentLink4Description: MTC14 Package Page; ComponentLink4URL: http://www.national.com/packaging/folders/mtc14.html
footprint MTC14_N (TSOP, 14-Leads, Body 5x4.4mm, Pitch 0.65mm, IPC Medium Density)
footprint MTC14_L (TSOP, 14-Leads, Body 5x4.4mm, Pitch 0.65mm, IPC High Density)
footprint MTC14_M (TSOP, 14-Leads, Body 5x4.4mm, Pitch 0.65mm, IPC Low Density)
pins on every part: 4 V+ (power), 11 V- (power)
part A pins: 1 OUTA (out), 2 INA- (in), 3 INA+ (in)
part B pins: 5 INB+ (in), 6 INB- (in), 7 OUTB (out)
part C pins: 8 OUTC (out), 9 INC- (in), 10 INC+ (in)
part D pins: 12 IND+ (in), 13 IND- (in), 14 OUTD (out)